# EAGLE library part DP3T (library JoesCustom)
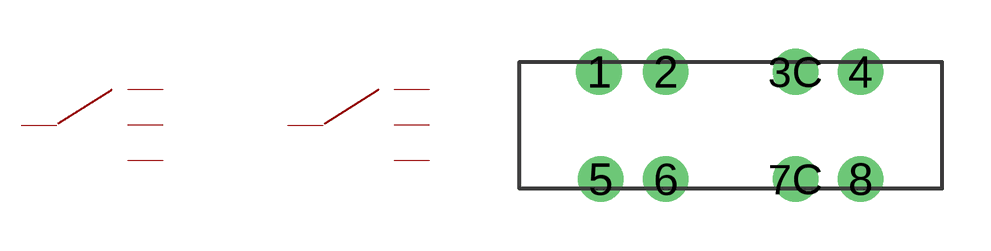
[diagram p7: symbol with the pads of JS203011CQN; footprint JS203011CQN]

Designator prefix -

## DP3T  [JS203011CQN]
1  1
2  2
3C  3C
4  4
5  5
6  6
7C  7C
8  8

## Footprint JS203011CQN (pad centres in mm)
drill 0.9 round: 1 -4.05,1.65; 2 -2,1.65; 3C 2,1.65; 4 4,1.65; 5 -4,-1.65; 6 -2,-1.65; 7C 2,-1.65; 8 4,-1.65